# Altium footprint library PCB11.PcbLib: 43 footprints (part 3 of 3)
Each footprint in its own frame and in the unit in brackets; x right, y up, seen from the top. Pads: shape width x height; smd on the part's side, far side on the other; paste and mask are expansions set on the pad; w line width, h text height; cw(c..) or ccw(c..) is an arc to the next point about the centre after c.
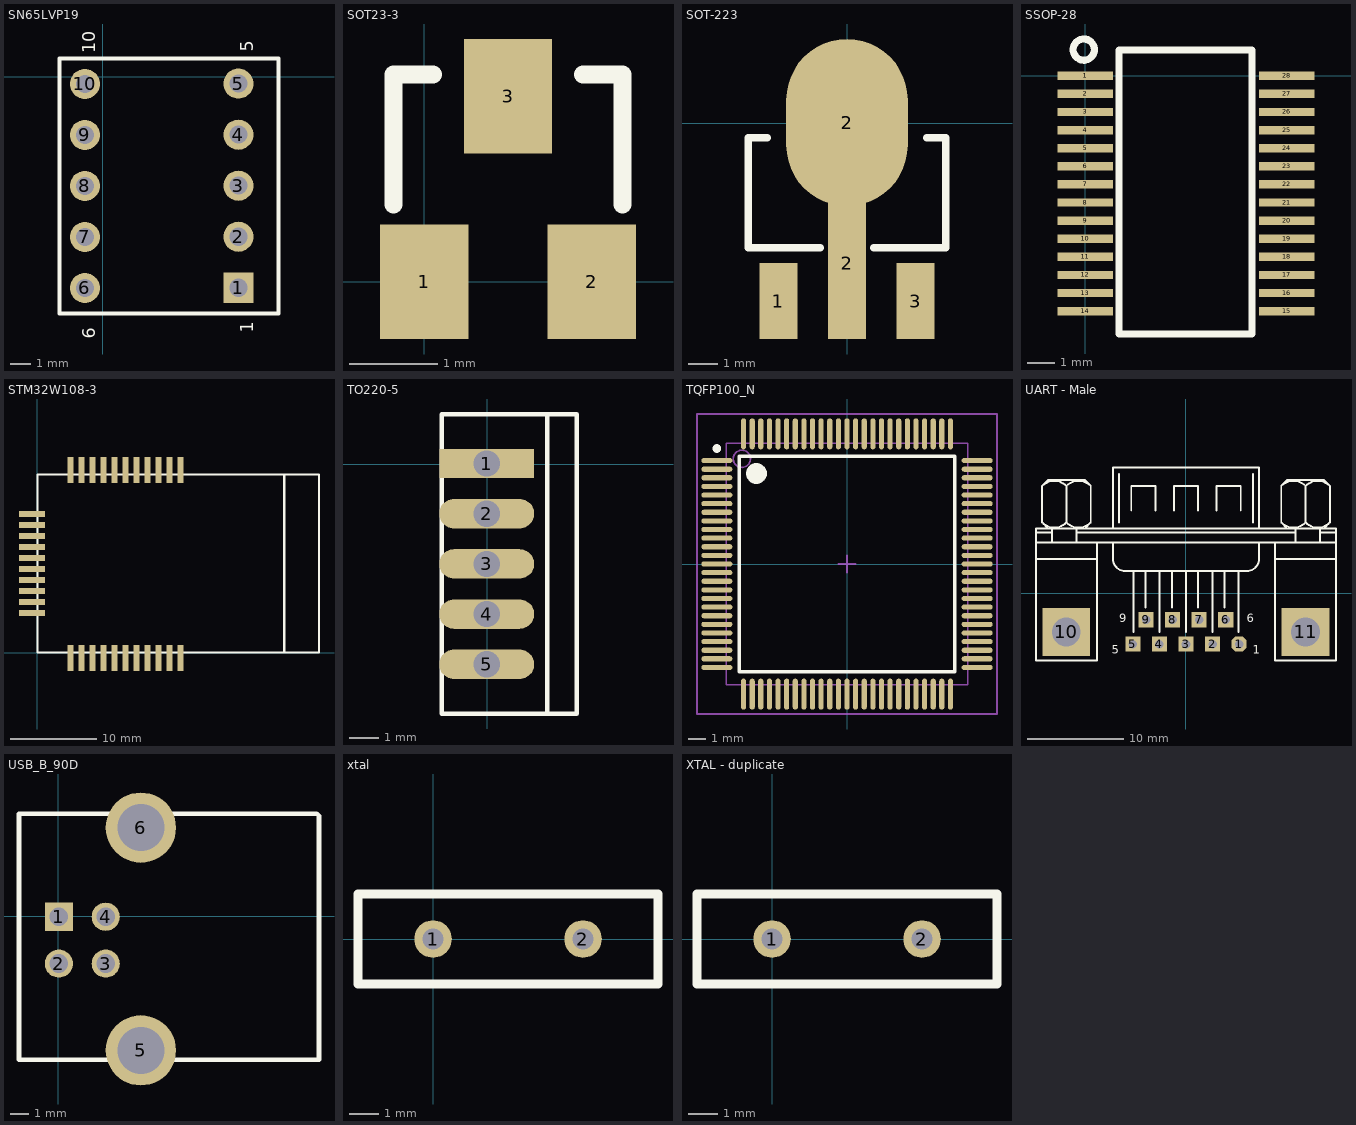
[diagram p2: the footprints below, top view; thin cyan lines are the x and y axes]

## SN65LVP19 [mm]
pads (10):
  rect 1.5x1.5 hole 0.9: 1(6.75,-10.5)
  round 1.5 hole 0.9: 2(6.75,-7.96) 3(6.75,-5.42) 4(6.75,-2.88) 5(6.75,-0.34) 6(-0.893,-10.513) 7(-0.893,-7.973) 8(-0.893,-5.433) 9(-0.893,-2.893) 10(-0.893,-0.353)
Top Overlay:
  lines w0.2: -2.163,-11.783 -2.163,0.917 8.75,0.917 8.75,-11.783 -2.163,-11.783
  text "1" at 7.5,-12.75 h0.64
  text "5" at 7.5,1.25 h0.64
  text "10" at -0.385,1.171 h0.64
  text "6" at -0.385,-13.053 h0.64

## SOT23-3 [mm]
height 6.86
pads (3):
  rect 1x1.3 smd: 1(0,0) 2(1.9,0) 3(0.95,2.1)
Top Overlay:
  lines w0.203: -0.35,0.875 -0.35,2.35 0.1,2.35 ; 1.8,2.35 2.25,2.35 2.25,0.875

## SOT-223 [mil]
height 270.08
pads (4):
  rect 50x100 smd: 1(-90.5,-234) 3(90.5,-234)
  rect 50x200 smd: 2(0,-184)
  oval 160x220 smd: 2(0,1)
Top Overlay:
  lines w10: -105,-19 -130,-19 -130,-164 -35,-164 ; 35,-164 130,-164 130,-19 105,-19

## SSOP-28 [mm]
height 6.86
pads (28):
  rect 2x0.3 smd: 1(0,0) 2(0,-0.65) 3(0,-1.3) 4(0,-1.95) 5(0,-2.6) 6(0,-3.25) 7(0,-3.9) 8(0,-4.55) 9(0,-5.2) 10(0,-5.85) 11(0,-6.5) 12(0,-7.15) 13(0,-7.8) 14(0,-8.45) 15(7.239,-8.45) 16(7.239,-7.8) 17(7.239,-7.15) 18(7.239,-6.5) 19(7.239,-5.85) 20(7.239,-5.2) 21(7.239,-4.55) 22(7.239,-3.9) 23(7.239,-3.25) 24(7.239,-2.6) 25(7.239,-1.95) 26(7.239,-1.3) 27(7.239,-0.65) 28(7.239,0)
Top Overlay:
  circle w0.254: c-0.051,0.94 r0.381
  lines w0.254: 1.219,-9.271 5.994,-9.271 5.994,0.929 1.219,0.929 1.219,-9.271

## STM32W108-3 [mm]
height 6.86
pads (32):
  rect 0.7x3 smd: 1(16.51,21.074) 2(15.24,21.074) 3(13.97,21.074) 4(12.7,21.074) 5(11.43,21.074) 6(10.16,21.074) 7(8.89,21.074) 8(7.62,21.074) 9(6.35,21.074) 10(5.08,21.074) 11(3.81,21.074) 22(3.81,-0.627) 23(5.08,-0.627) 24(6.35,-0.627) 25(7.62,-0.627) 26(8.89,-0.627) 27(10.16,-0.627) 28(11.43,-0.627) 29(12.7,-0.627) 30(13.97,-0.627) 31(15.24,-0.627) 32(16.51,-0.627)
  rect 3x0.7 smd: 12(-0.627,16.002) 13(-0.627,14.732) 14(-0.627,13.462) 15(-0.627,12.192) 16(-0.627,10.922) 17(-0.627,9.652) 18(-0.627,8.382) 19(-0.627,7.112) 20(-0.627,5.842) 21(-0.627,4.572)
Top Overlay:
  lines w0.254: 0,0 28.5,0 ; 0,0.074 0,20.574 28.5,20.574 28.5,0.074 ; 28.448,0 32.512,0 32.512,20.574 ; 28.448,20.574 32.448,20.574

## TO220-5 [mil]
height 270.08
pads (5):
  rect 126.67x39.17 hole 35: 1(-0.86,1)
  oval 126.67x39.17 hole 35: 2(-0.86,-65.93) 3(-0.86,-132.86) 4(-0.86,-199.79) 5(-0.86,-266.72)
Top Overlay:
  lines w6: 80,-333 80,67 ; -60.86,-333 119.14,-333 119.14,67 -60.86,67 -60.86,-333

## TQFP100_N [mm] "100-Pin Plastic Thin Quad Flat Pack (TQFP100), IPC Medium Density"
height 1.2
pads (100):
  oval 1.8x0.3 smd: 1(-7.55,6) 2(-7.55,5.5) 3(-7.55,5) 4(-7.55,4.5) 5(-7.55,4) 6(-7.55,3.5) 7(-7.55,3) 8(-7.55,2.5) 9(-7.55,2) 10(-7.55,1.5) 11(-7.55,1) 12(-7.55,0.5) 13(-7.55,0) 14(-7.55,-0.5) 15(-7.55,-1) 16(-7.55,-1.5) 17(-7.55,-2) 18(-7.55,-2.5) 19(-7.55,-3) 20(-7.55,-3.5) 21(-7.55,-4) 22(-7.55,-4.5) 23(-7.55,-5) 24(-7.55,-5.5) 25(-7.55,-6) 51(7.55,-6) 52(7.55,-5.5) 53(7.55,-5) 54(7.55,-4.5) 55(7.55,-4) 56(7.55,-3.5) 57(7.55,-3) 58(7.55,-2.5) 59(7.55,-2) 60(7.55,-1.5) 61(7.55,-1) 62(7.55,-0.5) 63(7.55,0) 64(7.55,0.5) 65(7.55,1) 66(7.55,1.5) 67(7.55,2) 68(7.55,2.5) 69(7.55,3) 70(7.55,3.5) 71(7.55,4) 72(7.55,4.5) 73(7.55,5) 74(7.55,5.5) 75(7.55,6)
  oval 0.3x1.8 smd: 26(-6,-7.55) 27(-5.5,-7.55) 28(-5,-7.55) 29(-4.5,-7.55) 30(-4,-7.55) 31(-3.5,-7.55) 32(-3,-7.55) 33(-2.5,-7.55) 34(-2,-7.55) 35(-1.5,-7.55) 36(-1,-7.55) 37(-0.5,-7.55) 38(0,-7.55) 39(0.5,-7.55) 40(1,-7.55) 41(1.5,-7.55) 42(2,-7.55) 43(2.5,-7.55) 44(3,-7.55) 45(3.5,-7.55) 46(4,-7.55) 47(4.5,-7.55) 48(5,-7.55) 49(5.5,-7.55) 50(6,-7.55) 76(6,7.55) 77(5.5,7.55) 78(5,7.55) 79(4.5,7.55) 80(4,7.55) 81(3.5,7.55) 82(3,7.55) 83(2.5,7.55) 84(2,7.55) 85(1.5,7.55) 86(1,7.55) 87(0.5,7.55) 88(0,7.55) 89(-0.5,7.55) 90(-1,7.55) 91(-1.5,7.55) 92(-2,7.55) 93(-2.5,7.55) 94(-3,7.55) 95(-3.5,7.55) 96(-4,7.55) 97(-4.5,7.55) 98(-5,7.55) 99(-5.5,7.55) 100(-6,7.55)
Top Overlay:
  circle w0.6: c-5.25,5.25 r0.3
  circle w0.25: c-7.55,6.7 r0.125
  lines w0.2: -6.25,-6.25 6.25,-6.25 6.25,6.25 -6.25,6.25 -6.25,-6.25
Mechanical 13:
  circle w0.1: c-6.1,6.1 r0.5
  lines w0.1: -7,-7 7,-7 7,7 -7,7 -7,-7
Mechanical 15:
  lines w0.1: -0.5,0 0.5,0 ; 0,-0.5 0,0.5 ; -8.7,-8.7 8.7,-8.7 8.7,8.7 -8.7,8.7 -8.7,-8.7
3D body: height 1.2, standoff 0, extent -7,-7 7,7

## UART - Male [mil]
pads (11):
  oct 62x62 hole 35: 1(218.39,-209.25)
  rect 62x62 hole 35: 2(109.22,-209.25) 3(0.05,-209.25) 4(-109.11,-209.25) 5(-218.28,-209.25) 6(163.39,-109.25) 7(54.22,-109.25) 8(-54.95,-109.25) 9(-164.11,-109.25)
  rect 196.67x196.67 hole 118.33: 10(-492.45,-159.25) 11(491.72,-159.25)
Top Overlay:
  lines w8: -616.61,140.75 -366.61,140.75 ; -616.61,207.41 616.72,207.41 ; -616.61,249.08 -549.95,249.08 ; -591.7,290.66 ccw(c-541.61,340.75) -491.53,290.66 ; -591.7,440.83 cw(c-541.61,390.75) -491.53,440.83 ; -566.61,265.75 -591.61,290.75 -591.61,440.75 -566.61,465.75 -416.61,465.75 -391.61,440.75 -391.61,290.75 -416.61,265.75 ; -549.95,207.41 -549.95,265.75 ; -491.7,290.66 ccw(c-441.61,340.75) -391.53,290.66 ; -491.7,440.83 cw(c-441.61,390.75) -391.53,440.83 ; -491.61,290.75 -491.61,440.75 ; -449.95,207.41 -449.95,265.75 ; -449.95,249.08 450.05,249.08 ; -366.61,207.41 -366.61,-275.92 -616.61,-275.92 -616.61,265.75 616.72,265.75 616.72,-275.92 366.72,-275.92 366.72,207.41 ; -299.95,207.41 -299.95,140.75 ccw(c-249.95,140.75) -249.95,90.75 250.05,90.75 ccw(c250.05,140.75) 300.05,140.75 300.05,207.41 ; -299.95,265.75 -299.95,515.75 300.05,515.75 300.05,265.75 ; -274.95,290.75 -274.95,490.75 ; -224.95,340.75 -224.95,440.75 -124.95,440.75 -124.95,340.75 ; -216.61,-159.25 -216.61,90.75 ; -166.61,-59.25 -166.61,90.75 ; -108.28,-159.25 -108.28,90.75 ; -58.28,-59.25 -58.28,90.75 ; -49.95,340.75 -49.95,440.75 50.05,440.75 50.05,340.75 ; 0.05,-159.25 0.05,90.75 ; 50.05,-59.25 50.05,90.75 ; 108.39,-159.25 108.39,90.75 ; 125.05,340.75 125.05,440.75 225.05,440.75 225.05,340.75 ; 158.39,-59.25 158.39,90.75 ; 216.72,-159.25 216.72,90.75 ; 275.05,290.75 275.05,490.75 ; 366.72,140.75 616.72,140.75 ; 391.63,290.66 ccw(c441.72,340.75) 491.81,290.66 ; 391.63,440.83 cw(c441.72,390.75) 491.81,440.83 ; 416.72,265.75 391.72,290.75 391.72,440.75 416.72,465.75 566.72,465.75 591.72,440.75 591.72,290.75 566.72,265.75 ; 450.05,207.41 450.05,265.75 ; 491.63,290.66 ccw(c541.72,340.75) 591.81,290.66 ; 491.63,440.83 cw(c541.72,390.75) 591.81,440.83 ; 491.72,290.75 491.72,440.75 ; 550.05,207.41 550.05,265.75 ; 550.05,249.08 616.72,249.08
  text "1" at 275,-250 h35
  text "6" at 250,-120 h35
  text "5" at -305,-250 h35
  text "9" at -275,-120 h35

## USB_B_90D [mil]
height 270.08
pads (6):
  rect 60.06x60.06 hole 40: 1(1,-1)
  round 60.06 hole 40: 2(1,-101) 3(101,-101) 4(101,-1)
  round 150 hole 100: 5(176,-286) 6(176,189)
Top Overlay:
  lines w10: -84,-306 556,-306 556,214 551,219 -84,219 -84,-306

## xtal [mil]
height 196.85
pads (2):
  round 50 hole 28: 1(0,0) 2(200,0)
Top Overlay:
  lines w12: -100,-60 -100,60 300,60 300,-60 -100,-60

## XTAL - duplicate [mil]
pads (2):
  round 50 hole 28: 1(0,0) 2(200,0)
Top Overlay:
  lines w12: -100,-60 -100,60 300,60 300,-60 -100,-60